# Altium schematic symbol library SCH - DRIVER - LED - TI LM3423_PWP_20.SchLib: 1 symbol
Pins are listed as number, name and electrical type; pins without a type are passive.

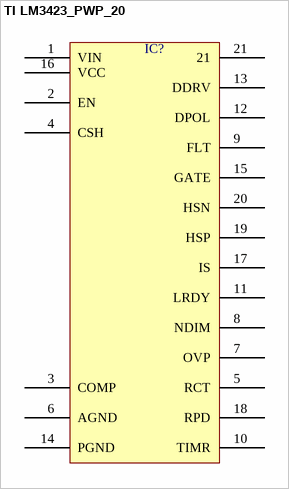
[diagram p0: symbol TI LM3423_PWP_20]

## TI LM3423_PWP_20
designator IC?  (value not drawn)
pins: 1 VIN, 2 EN, 3 COMP, 4 CSH, 5 RCT, 6 AGND, 7 OVP, 8 NDIM, 9 FLT, 10 TIMR, 11 LRDY, 12 DPOL, 13 DDRV, 14 PGND, 15 GATE, 16 VCC, 17 IS, 18 RPD, 19 HSP, 20 HSN, 21